# EAGLE library part SWITCH6X2MM (library balmer)
TINY SWITCH ON - MOM Source: http://www2.produktinfo.conrad.com/datenblaetter/700000-724999/705152-da-01-de-Subminiaturschalter_TL_36YO.pdf
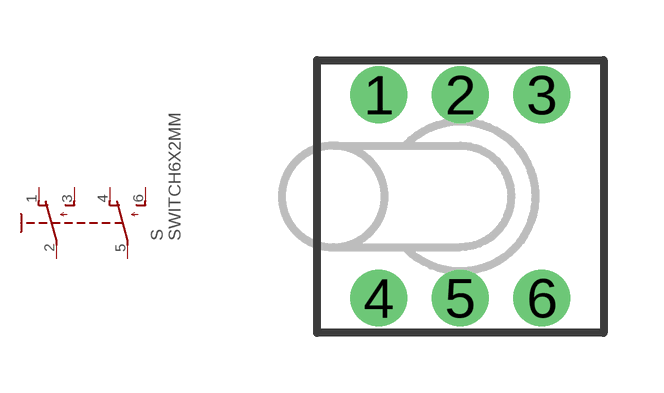
[diagram p4: symbol with the pads of SWITCH6X2MM; footprint SWITCH6X2MM]

Designator prefix S

## SWITCH6X2MM  [SWITCH6X2MM]
1  O  pas
2  P  pas
3  S  pas
4  O1  pas
5  P1  pas
6  S1  pas

## Footprint SWITCH6X2MM (pad centres in mm)
TINY SWITCH Source: http://www2.produktinfo.conrad.com/datenblaetter/700000-724999/705152-da-01-de-Subminiaturschalter_TL_36YO.pdf
drill 0.6 pad 1.422: 1 -2.04,2.54; 2 0,2.54; 4 -2.04,-2.54; 5 0,-2.54; 6 2.04,-2.54
drill 0.7 pad 1.422: 3 2.04,2.54